# Altium schematic symbol library LM5146RGYR.SchLib: 1 symbol
Pins are listed as number, name and electrical type; pins without a type are passive.

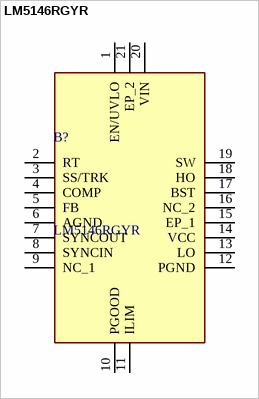
[diagram p0: symbol LM5146RGYR]

## LM5146RGYR
designator B?
Buck Regulator Positive Output Step-Down  DC-DC Controller IC 20-VQFN (3.5x4.5); Manufacturer_Name: Texas Instruments; Geometry.Height: 1mm; Manufacturer_Part_Number: LM5146RGYR; Mouser Part Number: 595-LM5146RGYR; Mouser Price/Stock: https://www.mouser.co.uk/ProductDetail/Texas-Instruments/LM5146RGYR?qs=QNEnbhJQKvb1sM4DnKk1TA%3D%3D; Arrow Part Number: LM5146RGYR; Arrow Price/Stock: https://www.arrow.com/en/products/lm5146rgyr/texas-instruments?region=nac; Datasheet Link: https://www.ti.com/lit/ds/symlink/lm5146.pdf?ts=1628013058760
footprint LM5146RGYR
pins: 1 EN/UVLO, 2 RT, 3 SS/TRK, 4 COMP, 5 FB, 6 AGND, 7 SYNCOUT, 8 SYNCIN, 9 NC_1, 10 PGOOD, 11 ILIM, 12 PGND, 13 LO, 14 VCC, 15 EP_1, 16 NC_2, 17 BST, 18 HO, 19 SW, 20 VIN, 21 EP_2